# Altium footprint library TE2343297-2.PcbLib: 1 footprints
Each footprint in its own frame and in the unit in brackets; x right, y up, seen from the top. Pads: shape width x height; smd on the part's side, far side on the other; paste and mask are expansions set on the pad; w line width, h text height; cw(c..) or ccw(c..) is an arc to the next point about the centre after c.
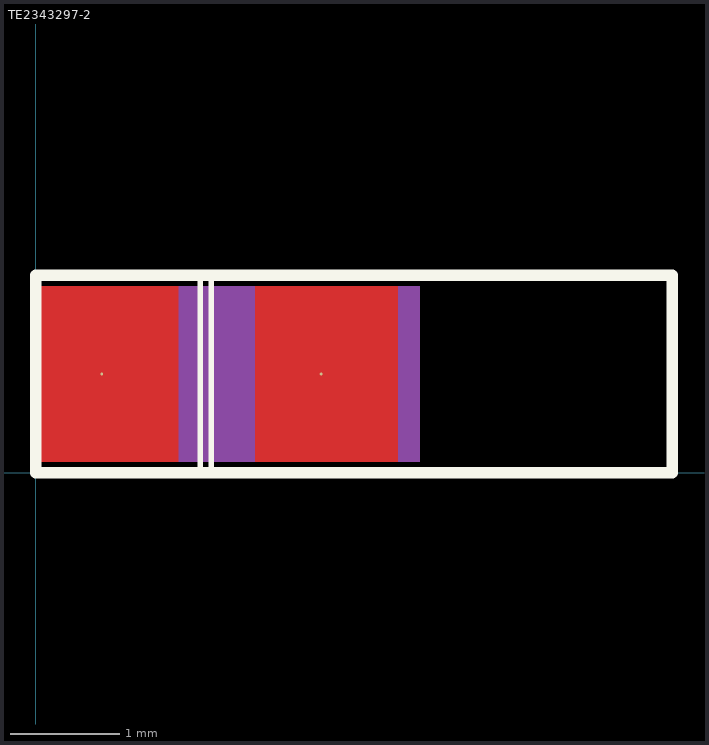
[diagram p0: the footprint, top view; thin cyan lines are the x and y axes]

## TE2343297-2 [mm]
pads (2):
  round 0.025 smd: 0(0.6,0.9) 0(2.6,0.9)
Top Layer:
  region: 0,0.1 1.3,0.1 1.3,1.7 0,1.7
  region: 2,1.7 2,0.1 3.3,0.1 3.3,1.7
Top Overlay:
  lines w0.051: 1.5,0 1.6,0 1.6,1.8 1.5,1.8 1.5,0
  lines w0.102: 0,0 5.8,0 5.8,1.8 0,1.8 0,0
Mechanical 1:
  rectangle: 0,0.1 3.5,1.7
3D body "c-2343297-2-a-3d.stp": height 3.94, standoff -0.01, extent 0,0 5.75,1.8